# Altium integrated library USB1086-GF-B_REVA.IntLib: 1 symbol
Pins are listed as number, name and electrical type; pins without a type are passive.

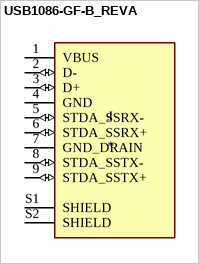
[diagram p0: symbol USB1086-GF-B_REVA]

## USB1086-GF-B_REVA
designator J
Type A USB 3.0 Through-hole Vertical Connector; MP: USB1086-GF-B; MF: Global Connector Technology; Package: None; DigiKey-Purchase-URL: https://snapeda.com/shop?store=DigiKey&id=4594019; Value: *; SnapEDA_Link: https://www.snapeda.com/parts/USB1086-GF-B/Global%20Connector%20Technology/view-part/4594019/?ref=snap; Price: None; Availability: Unavailable
footprint GCT_USB1086-GF-B_REVA
pins: 1 VBUS (power), 2 D- (io), 3 D+ (io), 4 GND (power), 5 STDA_SSRX- (io), 6 STDA_SSRX+ (io), 7 GND_DRAIN (power), 8 STDA_SSTX- (io), 9 STDA_SSTX+ (io), S1 SHIELD, S2 SHIELD